# Altium footprint library EISI.PcbLib: 695 footprints (part 17 of 44)
Each footprint in its own frame and in the unit in brackets; x right, y up, seen from the top. Pads: shape width x height; smd on the part's side, far side on the other; paste and mask are expansions set on the pad; w line width, h text height; cw(c..) or ccw(c..) is an arc to the next point about the centre after c.
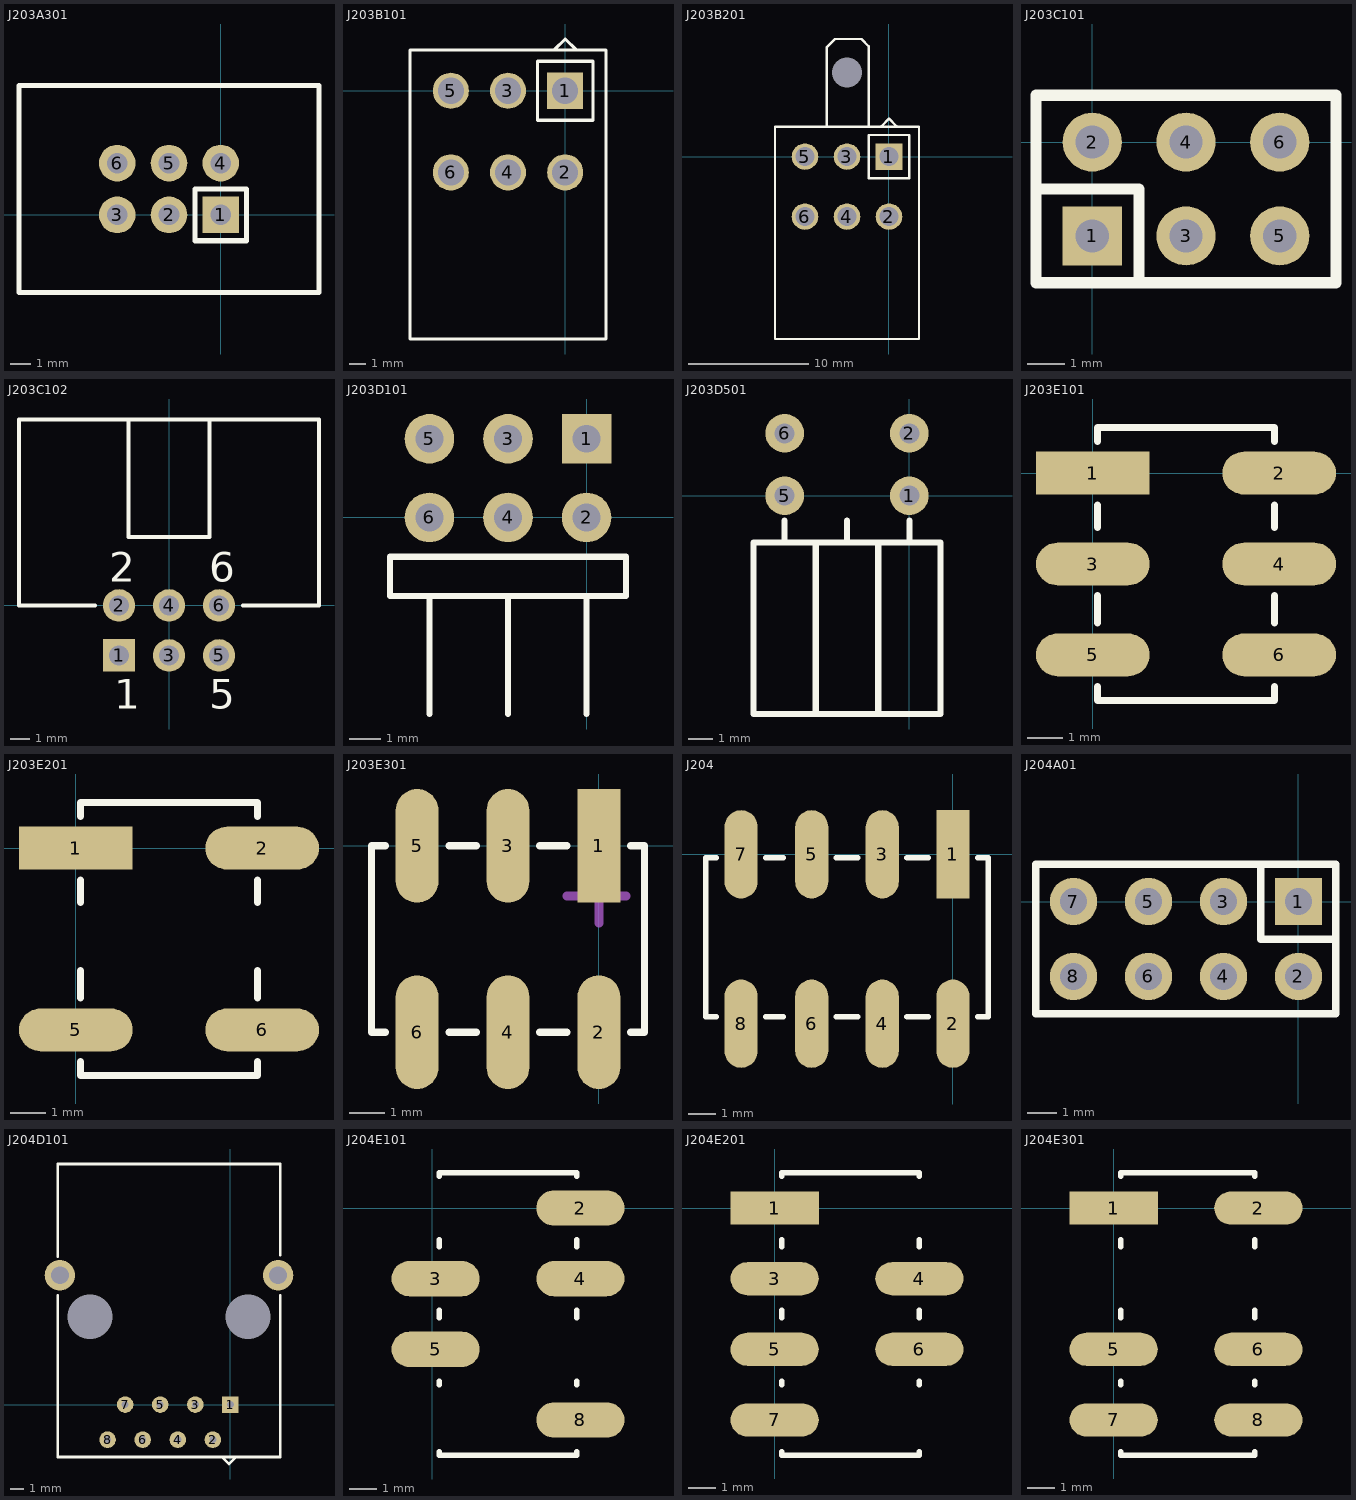
[diagram p16: the footprints below, top view; thin cyan lines are the x and y axes]

## J203A301 [mm]
pads (6):
  rect 1.8x1.8 hole 1.016 unplated: 1(0,0)
  round 1.8 hole 1.016 unplated: 2(-2.54,0) 3(-5.08,0) 4(0,2.54) 5(-2.54,2.54) 6(-5.08,2.54)
TopOverlay:
  lines w0.254: -9.906,-3.81 -6.35,-3.81 -3.81,-3.81 -1.27,-3.81 1.27,-3.81 4.826,-3.81 4.826,6.35 -9.906,6.35 -9.906,-3.81 ; -1.27,-1.27 1.27,-1.27 1.27,1.27 -1.27,1.27 -1.27,-1.27

## J203B101 [mil]
pads (6):
  rect 87x87 hole 63: 1(0,0)
  round 87 hole 63: 2(0,-196.85) 3(-137.79,0) 4(-137.79,-196.85) 5(-275.59,0) 6(-275.59,-196.85)
TopOverlay:
  lines w7.87: -25,99.69 0,124.69 25,99.69 ; -374.01,-598.42 98.43,-598.42 98.43,98.42 -374.01,98.42 -374.01,-276.85 -374.01,-275.59 -374.01,-598.42 ; -66.93,-70.87 66.93,-70.87 66.93,70.87 -66.93,70.87 -66.93,-70.87

## J203B201 [mil]
pads (7):
  rect 87x87 hole 63: 1(0,0)
  round 87 hole 63: 2(0,-196.85) 3(-137.79,0) 4(-137.79,-196.85) 5(-275.59,0) 6(-275.59,-196.85)
  round 11.81 hole 98.43: ""(-137.8,275.59)
TopOverlay:
  lines w7.87: -204.72,98.43 -204.72,358.27 -177.17,385.83 -90.55,385.83 -66.93,362.2 -66.93,98.43 ; -25,99.69 0,124.69 25,99.69 ; -374.01,-598.42 98.43,-598.42 98.43,98.42 -374.01,98.42 -374.01,-276.85 -374.01,-275.59 -374.01,-598.42 ; -66.93,-70.87 66.93,-70.87 66.93,70.87 -66.93,70.87 -66.93,-70.87

## J203C101 [mm]
pads (6):
  rect 1.6x1.6 hole 0.9: 1(0,-2.54)
  round 1.6 hole 0.9: 2(0,0) 3(2.54,-2.54) 4(2.54,0) 5(5.08,-2.54) 6(5.08,0)
TopOverlay:
  lines w0.3: -1.524,-1.27 1.27,-1.27 1.27,-3.81
  lines w0.305: -1.524,-3.81 6.604,-3.81 6.604,1.27 -1.524,1.27 -1.524,-3.81

## J203C102 [mm] "Connector; IDC, Low Profile Male Header, Thru-Hole; 6 Position; Right Angle; Pitch 2.54 mm; Body 15.24 x 8.9 x 9.2 mm (LxWxH)"
height 9.2
pads (6):
  rect 1.65x1.65 hole 1: 1(-2.54,-2.54)
  round 1.65 hole 1: 2(-2.54,0) 3(0,-2.54) 4(0,0) 5(2.54,-2.54) 6(2.54,0)
TopOverlay:
  lines w0.2: -3.765,0 -7.62,0 -7.62,9.45 7.62,9.45 7.62,0 3.765,0 ; -2.05,9.45 -2.05,3.48 2.05,3.48 2.05,9.45
  text "5" at 2.04,-5.24 h1.5
  text "6" at 2.04,1.2 h1.5
  text "1" at -2.79,-5.24 h1.5
  text "2" at -3.04,1.2 h1.5

## J203D101 [mm]
pads (6):
  rect 1.6x1.6 hole 0.9: 1(0,2.54)
  round 1.6 hole 0.9: 2(0,0) 3(-2.54,2.54) 4(-2.54,0) 5(-5.08,2.54) 6(-5.08,0)
TopOverlay:
  lines w0.2: -5.08,-6.35 -5.08,-2.54 ; -2.54,-6.35 -2.54,-2.54 ; 0,-6.35 0,-2.54 ; -6.35,-2.54 1.27,-2.54 1.27,-1.27 -6.35,-1.27 -6.35,-2.54

## J203D501 [mil]
pads (4):
  round 62 hole 32: 1(0,0) 2(0,100) 5(-200,0) 6(-200,100)
TopOverlay:
  lines w10: -200,-75 -200,-40 ; -150,-350 -150,-75 ; -100,-75 -100,-40 ; -50,-350 -50,-75 ; 0,-75 0,-40 ; -250,-350 50,-350 50,-75 -250,-75 -250,-350

## J203E101 [mil]
pads (6):
  rect 125x47 smd: 1(0,0)
  oval 125x47 smd: 2(205,0) 3(0,-100) 4(205,-100) 5(0,-200) 6(205,-200)
TopOverlay:
  lines w7.87: 5,-235 5,-250 200,-250 200,-235 ; 5,-165 5,-135 ; 5,-60 5,-35 ; 5,35 5,50 200,50 200,35 ; 200,-165 200,-135 ; 200,-60 200,-35

## J203E201 [mil]
pads (4):
  rect 125x47 smd: 1(0,0)
  oval 125x47 smd: 2(205,0) 5(0,-200) 6(205,-200)
TopOverlay:
  lines w7.87: 5,-235 5,-250 200,-250 200,-235 ; 5,-165 5,-135 ; 5,-60 5,-35 ; 5,35 5,50 200,50 200,35 ; 200,-165 200,-135 ; 200,-60 200,-35

## J203E301 [mil]
pads (6):
  rect 47x125 smd: 1(0,0)
  oval 47x125 smd: 2(0,-205) 3(-100,0) 4(-100,-205) 5(-200,0) 6(-200,-205)
TopOverlay:
  lines w7.87: -235,-205 -250,-205 -250,0 -235,0 ; -165,-205 -135,-205 ; -165,0 -135,0 ; -65,-205 -35,-205 ; -65,0 -35,0 ; 35,-205 50,-205 50,0 35,0
Mechanical3:
  lines w10: -35,-55 30,-55 ; 0,-85 0,-25

## J204 [mil]
pads (8):
  rect 47x125 smd: 1(0,0)
  oval 47x125 smd: 2(0,-240) 3(-100,0) 4(-100,-240) 5(-200,0) 6(-200,-240) 7(-300,0) 8(-300,-240)
TopOverlay:
  lines w7.87: -335,-230 -350,-230 -350,-5 -335,-5 ; -265,-230 -240,-230 ; -265,-5 -240,-5 ; -165,-230 -135,-230 ; -165,-5 -135,-5 ; -65,-230 -35,-230 ; -65,-5 -35,-5 ; 35,-230 50,-230 50,-5 35,-5

## J204A01 [mm]
pads (8):
  rect 1.6x1.6 hole 0.9: 1(0,0)
  round 1.6 hole 0.9: 2(0,-2.54) 3(-2.54,0) 4(-2.54,-2.54) 5(-5.08,0) 6(-5.08,-2.54) 7(-7.62,0) 8(-7.62,-2.54)
TopOverlay:
  lines w0.254: -1.27,1.27 -1.27,-1.27 1.27,-1.27 ; -8.89,-3.81 1.27,-3.81 1.27,1.27 -8.89,1.27 -8.89,-3.81

## J204D101 [mm]
pads (12):
  rect 1.2x1.2 hole 0.508: 1(0,0)
  round 1.2 hole 0.508: 2(-1.27,-2.54) 3(-2.54,0) 4(-3.81,-2.54) 5(-5.08,0) 6(-6.35,-2.54) 7(-7.62,0) 8(-8.89,-2.54)
  round 2.2 hole 1.295: ""(-12.34,9.35) ""(3.45,9.35)
  round 0.3 hole 3.251: ""(-10.16,6.35) ""(1.27,6.35)
TopOverlay:
  lines w0.2: -12.5,7.9 -12.5,-3.8 3.6,-3.8 3.6,7.9 ; -12.5,10.7 -12.5,17.4 3.6,17.4 3.6,10.8 ; -0.6,-3.8 -0.1,-4.3 0.4,-3.8

## J204E101 [mm]
pads (5):
  oval 3.17x1.27 smd: 2(5.334,0) 3(0.127,-2.54) 4(5.334,-2.54) 5(0.127,-5.08) 8(5.334,-7.62)
TopOverlay:
  lines w0.2: 0.254,-8.763 0.254,-8.89 5.207,-8.89 5.207,-8.763 ; 0.254,-6.35 0.254,-6.223 ; 0.254,-3.937 0.254,-3.683 ; 0.254,-1.397 0.254,-1.143 ; 0.254,1.143 0.254,1.27 5.207,1.27 5.207,1.143 ; 5.207,-6.35 5.207,-6.223 ; 5.207,-3.937 5.207,-3.683 ; 5.207,-1.397 5.207,-1.143

## J204E201 [mil]
pads (6):
  rect 125x47 smd: 1(0,0)
  oval 125x47 smd: 3(0,-100) 4(205,-100) 5(0,-200) 6(205,-200) 7(0,-300)
TopOverlay:
  lines w7.87: 10,-345 10,-350 205,-350 205,-345 ; 10,-250 10,-245 ; 10,-155 10,-145 ; 10,-55 10,-45 ; 10,45 10,50 205,50 205,45 ; 205,-250 205,-245 ; 205,-155 205,-145 ; 205,-55 205,-45

## J204E301 [mil]
pads (6):
  rect 125x47 smd: 1(0,0)
  oval 125x47 smd: 2(205,0) 5(0,-200) 6(205,-200) 7(0,-300) 8(205,-300)
TopOverlay:
  lines w7.87: 10,-345 10,-350 200,-350 200,-345 ; 10,-250 10,-245 ; 10,-155 10,-145 ; 10,-55 10,-45 ; 10,45 10,50 200,50 200,45 ; 200,-250 200,-245 ; 200,-155 200,-145 ; 200,-55 200,-45